# Altium footprint library Ceramic_Antenna.PcbLib: 2 footprints
Each footprint in its own frame and in the unit in brackets; x right, y up, seen from the top. Pads: shape width x height; smd on the part's side, far side on the other; paste and mask are expansions set on the pad; w line width, h text height; cw(c..) or ccw(c..) is an arc to the next point about the centre after c.
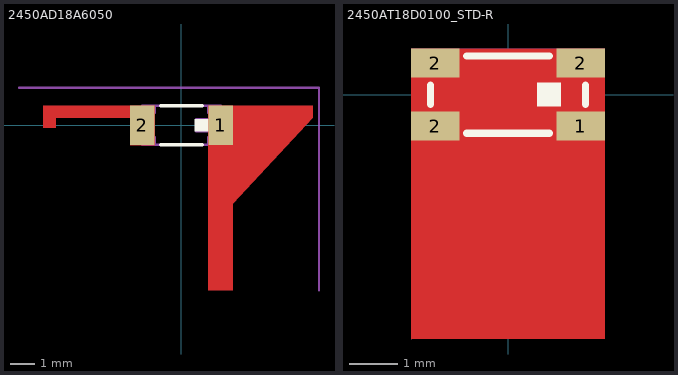
[diagram p0: the footprints below, top view; thin cyan lines are the x and y axes]

## 2450AD18A6050 [mm]
pads (2):
  rect 1x1.6 smd mask+0.051: 1(1.6,0) 2(-1.6,0)
Top Layer:
  region: -5.636,-0.1 -5.636,0.8 -1.1,0.8 -1.1,-0.826 -2.1,-0.826 -2.1,0.3 -5.136,0.3 -5.136,-0.1
  region: 1.1,-6.733 2.1,-6.733 2.1,-3.216 5.364,0.3 5.364,0.8 1.1,0.8
Top Overlay:
  region: 1.1,0.25 0.525,0.25 0.525,-0.25 1.1,-0.25
  lines w0.15: -1.6,-0.2 -1.6,0.2 ; -0.85,-0.8 0.85,-0.8 ; -0.85,0.8 0.85,0.8 ; 1.6,-0.2 1.6,0.2
Mechanical 7:
  lines w0.1: -6.636,1.521 5.618,1.521 5.618,-6.733 ; -1.6,-0.5 -1.1,-0.5 -1.1,-0.8 ; -1.6,0.5 -1.1,0.5 -1.1,0.8 ; 1.1,-0.8 1.1,-0.5 1.6,-0.5 ; 1.1,0.8 1.1,0.5 1.6,0.5 ; -1.6,-0.8 1.6,-0.8 1.6,0.8 -1.6,0.8 -1.6,-0.8 ; 0.607,-0.252 0.607,0.247 1.106,0.247 1.106,-0.252 0.607,-0.252
  text ".Designator" at -0.068,0.153 h0.38
Multi-Layer:
  pour cut-out: -6.636,-6.733 -6.636,1.521 5.618,1.521 5.618,-6.733
3D body: height 0.5, standoff 0.4, extent 0.525,-0.25 1.35,0.25
3D body: height 0.5, standoff 0, extent 1.105,0.505 1.605,0.805
3D body: height 0.5, standoff 0.02, extent -1.6,-0.8 1.6,0.8
3D body: height 0.5, standoff 0, extent -1.605,-0.805 -1.105,-0.505
3D body: height 0.5, standoff 0, extent -1.605,0.505 -1.105,0.805
3D body: height 0.5, standoff 0, extent 1.105,-0.805 1.605,-0.505

## 2450AT18D0100_STD-R [mm]
pads (4):
  rect 1x0.6 smd mask+0.051: 1(1.5,-0.65) 2(-1.5,-0.65) 2(-1.5,0.65) 2(1.5,0.65)
Top Layer:
  pour cut-out: 2,-5.05 2,0.95 -2,0.95 -2,-5.05
Bottom Layer:
  pour cut-out: 2,-5.05 2,0.95 -2,0.95 -2,-5.05
Top Overlay:
  region: 1.1,0.25 0.6,0.25 0.6,-0.25 1.1,-0.25
  lines w0.15: -1.6,-0.2 -1.6,0.2 ; -0.85,-0.8 0.85,-0.8 ; -0.85,0.8 0.85,0.8 ; 1.6,-0.2 1.6,0.2
Mechanical 7:
  lines w0.1: -1.6,-0.5 -1.1,-0.5 -1.1,-0.8 ; -1.6,0.5 -1.1,0.5 -1.1,0.8 ; 1.1,-0.8 1.1,-0.5 1.6,-0.5 ; 1.1,0.8 1.1,0.5 1.6,0.5 ; -1.6,-0.8 -1.6,0.8 1.6,0.8 1.6,-0.8 -1.6,-0.8 ; 0.607,-0.247 1.106,-0.247 1.106,0.252 0.607,0.252 0.607,-0.247
  text ".Designator" at -0.2,0.175 h0.38
3D body: height 1.2, standoff 0.01, extent 0.6,-0.25 1.099,0.25
3D body: height 1.2, standoff 0, extent 1.105,-0.805 1.605,-0.505
3D body: height 1.2, standoff 0, extent -1.6,-0.8 1.6,0.8
3D body: height 1.2, standoff 0, extent -1.605,0.505 -1.105,0.805
3D body: height 1.2, standoff 0, extent -1.605,-0.805 -1.105,-0.505
3D body: height 1.2, standoff 0, extent 1.105,0.505 1.605,0.805